# Altium schematic symbol library Schlib2.SchLib: 1 symbol
Pins are listed as number, name and electrical type; pins without a type are passive.

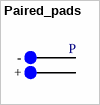
[diagram p0: symbol Paired_pads]

## Paired_pads
designator P  (value not drawn)
footprint Paired_pads
pins: 1 +, 2 -